# Altium footprint library PCB - LEADLESS - WLCSP - NXP WLCSP16 1.86x1.86mm.PcbLib: 1 footprints
Each footprint in its own frame and in the unit in brackets; x right, y up, seen from the top. Pads: shape width x height; smd on the part's side, far side on the other; paste and mask are expansions set on the pad; w line width, h text height; cw(c..) or ccw(c..) is an arc to the next point about the centre after c.
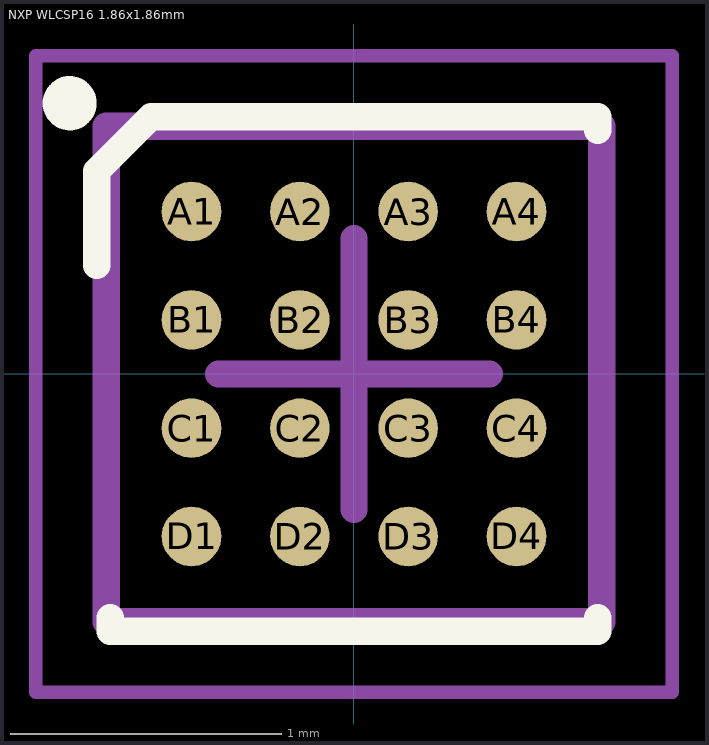
[diagram p0: the footprint, top view; thin cyan lines are the x and y axes]

## NXP WLCSP16 1.86x1.86mm [mm] "BGA, 16-Leads, Body 1.83x1.83mmx0.54mm, Pitch 0.40mm"
height 0.54
pads (16):
  round 0.22 smd: A1(-0.6,0.6) A2(-0.2,0.6) A3(0.2,0.6) A4(0.6,0.6) B1(-0.6,0.2) B2(-0.2,0.2) B3(0.2,0.2) B4(0.6,0.2) C1(-0.6,-0.2) C2(-0.2,-0.2) C3(0.2,-0.2) C4(0.6,-0.2) D1(-0.6,-0.6) D2(-0.2,-0.6) D3(0.2,-0.6) D4(0.6,-0.6)
Top Overlay:
  circle w0.1: c-1.05,1 r0.05
  lines w0.1: -0.95,0.4 -0.95,0.75 -0.75,0.95 0.9,0.95 0.9,0.9 ; -0.9,-0.9 -0.9,-0.95 0.9,-0.95 0.9,-0.9
Mechanical 13:
  lines w0.1: -0.915,-0.915 0.915,-0.915 0.915,0.915 -0.915,0.915 -0.915,-0.915
Mechanical 15 (Mech15):
  lines w0.05: -1.175,-1.175 1.175,-1.175 1.175,1.175 -1.175,1.175 -1.175,-1.175
  lines w0.1: -0.5,0 0.5,0 ; 0,-0.5 0,0.5
3D body "NXP - WLCSP16 1.86x1.86mm v2.step": height 0.54, standoff 0, extent -0.915,-0.915 0.915,0.915